# Altium footprint library DRB-9FA.PcbLib: 1 footprints
Each footprint in its own frame and in the unit in brackets; x right, y up, seen from the top. Pads: shape width x height; smd on the part's side, far side on the other; paste and mask are expansions set on the pad; w line width, h text height; cw(c..) or ccw(c..) is an arc to the next point about the centre after c.
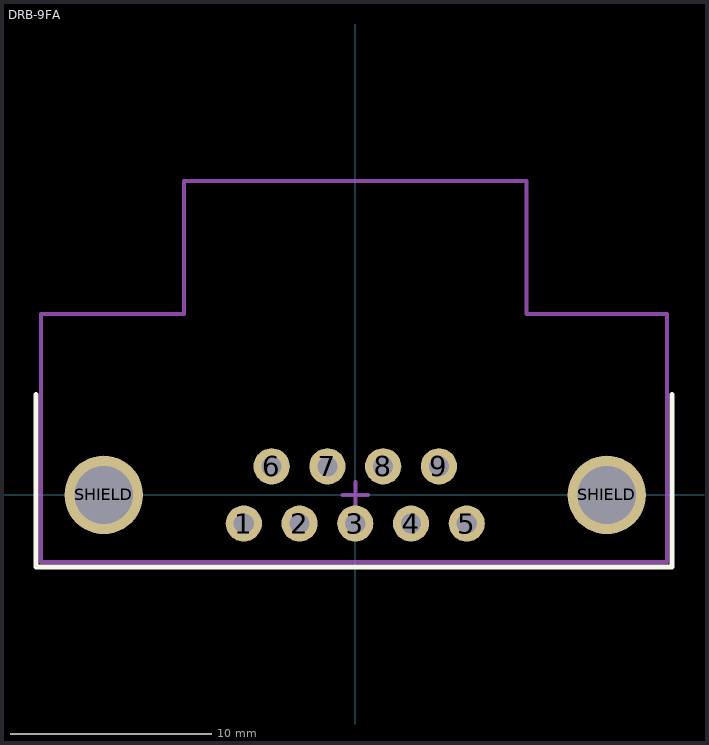
[diagram p0: the footprint, top view; thin cyan lines are the x and y axes]

## DRB-9FA [mm]
pads (11):
  round 1.8 hole 1: 1(-5.54,-1.42) 2(-2.77,-1.42) 3(0,-1.42) 4(2.77,-1.42) 5(5.54,-1.42) 6(-4.155,1.42) 7(-1.385,1.42) 8(1.385,1.42) 9(4.155,1.42)
  round 3.9 / inner round 3.2 / far side round 4.5 hole 2.9: SHIELD(-12.5,0) SHIELD(12.5,0)
Top Overlay:
  lines w0.254: -15.875,5 -15.875,-3.579 15.748,-3.579 15.748,5
Mechanical 13:
  lines w0.2: -15.621,-3.325 15.494,-3.325 15.494,8.994 8.509,8.994 8.509,15.598 -8.509,15.598 -8.509,8.994 -15.621,8.994 -15.621,-3.325
  text ".Designator" at -4.889,4.803 h2.5
Mechanical 15:
  lines w0.2: -0.635,0 0.635,0 ; 0,-0.635 0,0.635
3D body: height 13.28, standoff -4.1, extent -15.4,-3.175 15.4,17.705